# Altium footprint library MS5611.PcbLib: 2 footprints
Each footprint in its own frame and in the unit in brackets; x right, y up, seen from the top. Pads: shape width x height; smd on the part's side, far side on the other; paste and mask are expansions set on the pad; w line width, h text height; cw(c..) or ccw(c..) is an arc to the next point about the centre after c.
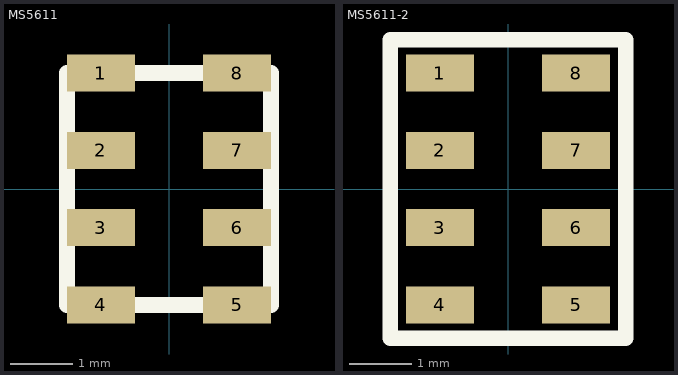
[diagram p0: the footprints below, top view; thin cyan lines are the x and y axes]

## MS5611 [mm] "MS5611"
pads (8):
  rect 1.1x0.6 smd: 1(-1.1,1.875) 2(-1.1,0.625) 3(-1.1,-0.625) 4(-1.1,-1.875) 5(1.1,-1.875) 6(1.1,-0.625) 7(1.1,0.625) 8(1.1,1.875)
Top Overlay:
  lines w0.254: -1.65,-1.875 -1.65,1.875 1.65,1.875 1.65,-1.875 -1.65,-1.875

## MS5611-2 [mm] "MS5611"
pads (8):
  rect 1.1x0.6 smd: 1(-1.1,1.875) 2(-1.1,0.625) 3(-1.1,-0.625) 4(-1.1,-1.875) 5(1.1,-1.875) 6(1.1,-0.625) 7(1.1,0.625) 8(1.1,1.875)
Top Overlay:
  lines w0.254: -1.905,-2.413 1.905,-2.413 1.905,2.413 -1.905,2.413 -1.905,-2.413
3D body "MS5611.STEP": height 1.02, standoff -0.01, extent -1.5,-2.5 1.5,2.5